# Altium footprint library IBB.PcbLib: 58 footprints (part 3 of 4)
Each footprint in its own frame and in the unit in brackets; x right, y up, seen from the top. Pads: shape width x height; smd on the part's side, far side on the other; paste and mask are expansions set on the pad; w line width, h text height; cw(c..) or ccw(c..) is an arc to the next point about the centre after c.
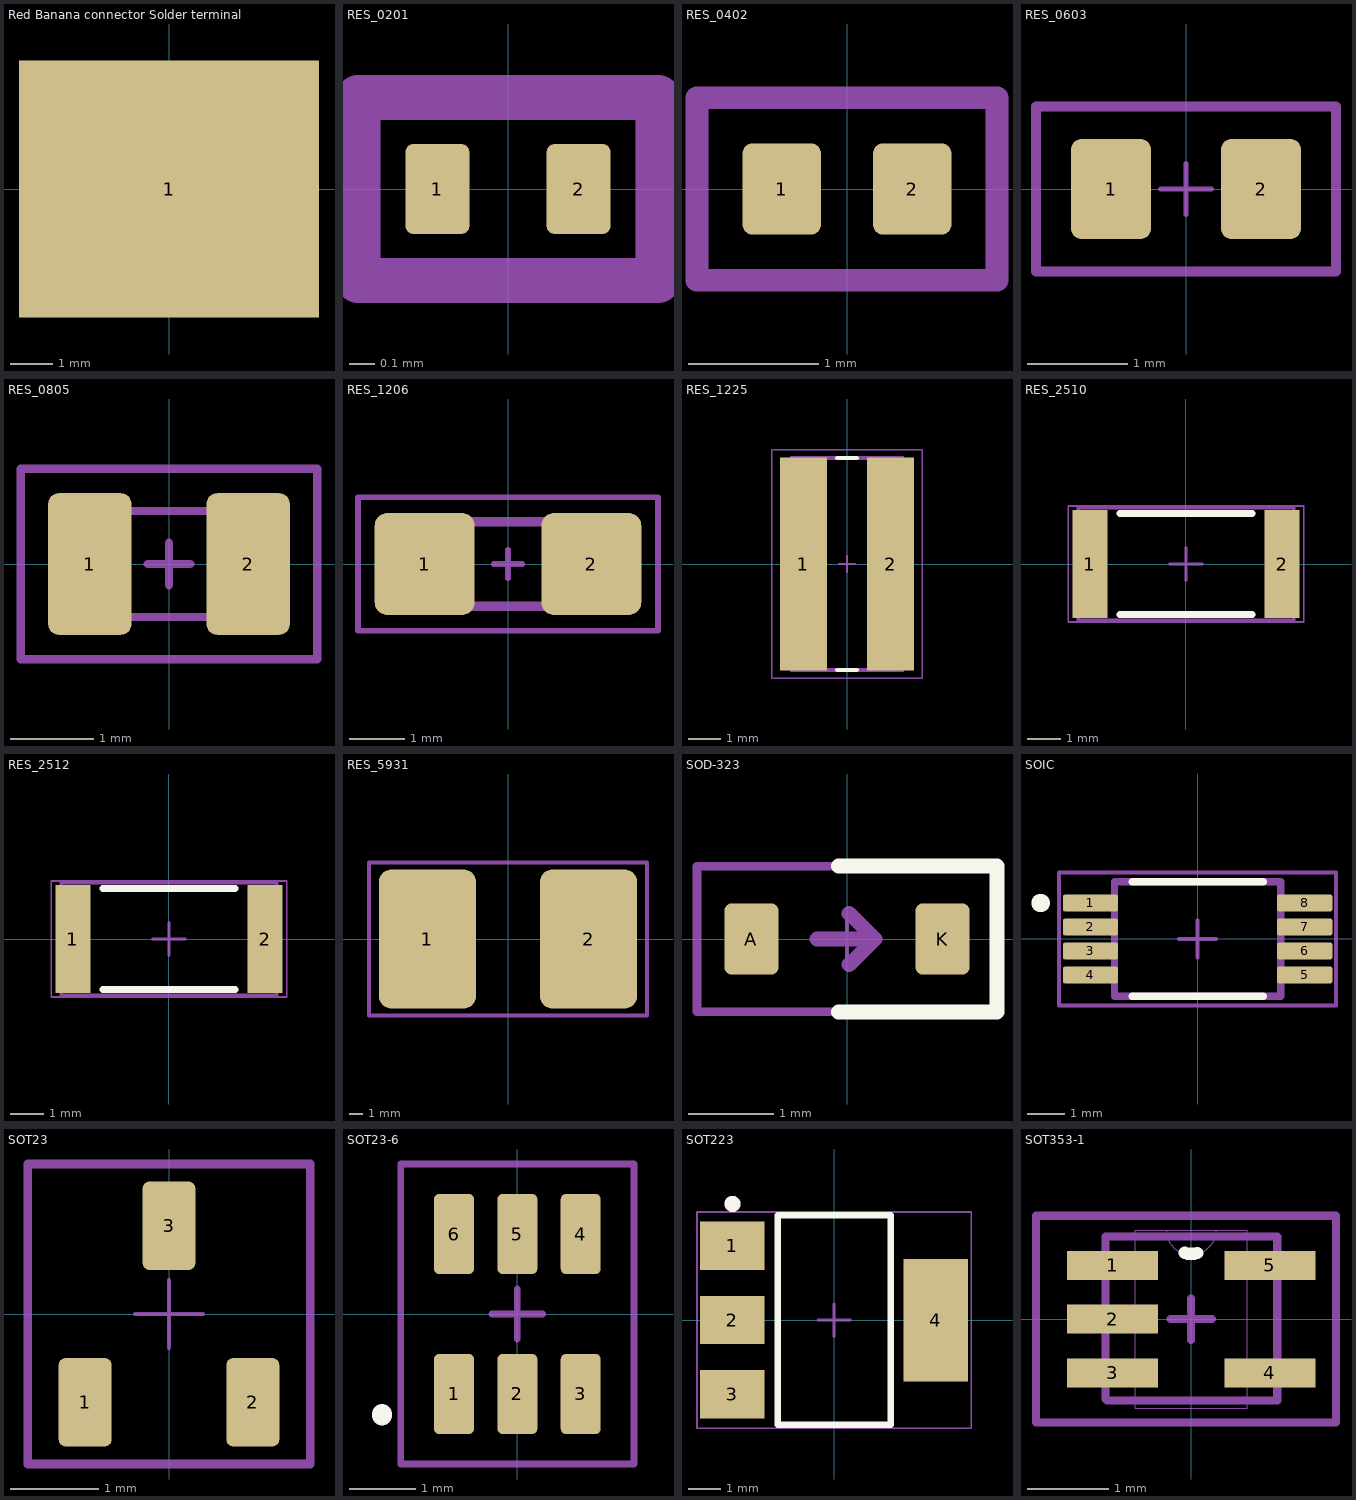
[diagram p2: the footprints below, top view; thin cyan lines are the x and y axes]

## Red Banana connector Solder terminal [mm]
pads (1):
  rect 7x6 smd: 1(0,0)

## RES_0201 [mm]
pads (2):
  rrect25% 0.25x0.35 smd mask+0.05: 1(-0.275,0) 2(0.275,0)
Mechanical 13:
  lines w0.175: -0.584,-0.356 0.584,-0.356 0.584,0.356 -0.584,0.356 -0.584,-0.356
  text "'.Designator'" at -5.665,-0.417 h1
3D body "R0201.step": height 0.15, standoff 0, extent -0.3,-0.15 0.3,0.15

## RES_0402 [mm]
pads (2):
  rrect25% 0.6x0.7 smd: 1(-0.5,0) 2(0.5,0)
Mechanical 13:
  lines w0.175: -1.15,-0.7 -1.15,0.7 1.15,0.7 1.15,-0.7 -1.15,-0.7
  text "'.Designator'" at -5.665,-0.417 h1
3D body "R0402.step": height 0.3, standoff 0, extent -0.5,-0.25 0.5,0.25

## RES_0603 [mm]
pads (2):
  rrect25% 0.8x1 smd mask+0.1: 1(-0.75,0) 2(0.75,0)
Top Component Center:
  lines w0.05: -0.254,0 0.254,0 ; 0,-0.254 0,0.254
Top Designator:
  text "'.Designator'" at -2.417,-0.226 h1
Top Component Outline:
  lines w0.1: -1.5,-0.825 -1.5,0.825 1.5,0.825 1.5,-0.825 -1.5,-0.825
3D body "R0603.step": height 0.52, standoff 0.01, extent -0.8,-0.43 0.8,0.43

## RES_0805 [mm]
pads (2):
  rrect25% 1x1.7 smd: 1(-0.95,0) 2(0.95,0)
Top Component Center:
  lines w0.1: -0.254,0 0.254,0 ; 0,-0.254 0,0.254
Top Designator:
  text "'.Designator'" at -2.417,-0.226 h1
Top Assembly:
  lines w0.1: -1.016,-0.635 -1.016,0.635 1.016,0.635 1.016,-0.635 -1.016,-0.635
Top Component Outline:
  lines w0.1: -1.778,-1.143 1.778,-1.143 1.778,1.143 -1.778,1.143 -1.778,-1.143
3D body "R0805.step": height 0.47, standoff 0.01, extent -1,-0.63 1,0.63

## RES_1206 [mm]
pads (2):
  rrect25% 1.8x1.84 smd mask+0.1: 1(-1.5,0) 2(1.5,0)
Top Component Center:
  lines w0.1: -0.254,0 0.254,0 ; 0,-0.254 0,0.254
Top Designator:
  text "'.Designator'" at -2.417,-0.226 h1
Top Assembly:
  lines w0.175: -1.651,-0.762 -1.651,0.762 1.651,0.762 1.651,-0.762 -1.651,-0.762
Top Component Outline:
  lines w0.1: -2.7,-1.2 2.7,-1.2 2.7,1.2 -2.7,1.2 -2.7,-1.2
3D body "R1206.step": height 0.57, standoff 0.01, extent -1.6,-0.83 1.6,0.83

## RES_1225 [mm]
pads (2):
  rect 1.44x6.52 smd paste+0 mask+0.102: 1(-1.34,0) 2(1.34,0)
Top Overlay:
  lines w0.127: -0.3,-3.25 0.3,-3.25 ; -0.3,3.25 0.3,3.25
Top Component Center:
  lines w0.05: -0.254,0 0.254,0 ; 0,-0.254 0,0.254
Top Designator:
  text ".Designator" at -3.434,-0.345 h1.52
Top Assembly:
  lines w0.127: -1.7,-3.25 1.7,-3.25 1.7,3.25 -1.7,3.25 -1.7,-3.25
Top Component Outline:
  lines w0.05: -2.308,-3.508 2.308,-3.508 2.308,3.508 -2.308,3.508 -2.308,-3.508
3D body "step_temp.STEP": height 0.8, standoff 0, extent -1.6,-3.15 1.6,3.15

## RES_2510 [mm]
pads (2):
  rect 1.05x3.25 smd: 1(-2.9,0) 2(2.9,0)
Top Overlay:
  lines w0.2: -2,-1.525 2,-1.525 ; -2,1.525 2,1.525
Top Component Center:
  lines w0.1: -0.5,0 0.5,0 ; 0,-0.5 0,0.5
Top Designator:
  text ".Designator" at -3.434,-0.345 h1.52
Mechanical 13:
  lines w0.1: -3.25,-1.7 -3.25,1.7 3.25,1.7 3.25,-1.7 -3.25,-1.7
Top Component Outline:
  lines w0.05: -3.55,-1.75 -3.55,1.75 3.55,1.75 3.55,-1.75 -3.55,-1.75
3D body: height 0.75, standoff 0, extent 2.63,-1.7 3.25,1.7
3D body: height 0.75, standoff 0, extent -3.25,-1.7 -2.63,1.7
3D body: height 0.75, standoff 0, extent -2.63,-1.7 2.63,1.7

## RES_2512 [mm]
pads (2):
  rect 1.05x3.25 smd: 1(-2.9,0) 2(2.9,0)
Top Overlay:
  lines w0.2: -2,-1.525 2,-1.525 ; -2,1.525 2,1.525
Top Component Center:
  lines w0.1: -0.5,0 0.5,0 ; 0,-0.5 0,0.5
Top Designator:
  text ".Designator" at -3.434,-0.345 h1.52
Mechanical 13:
  lines w0.1: -3.25,-1.7 -3.25,1.7 3.25,1.7 3.25,-1.7 -3.25,-1.7
Top Component Outline:
  lines w0.05: -3.55,-1.75 -3.55,1.75 3.55,1.75 3.55,-1.75 -3.55,-1.75
3D body: height 0.75, standoff 0, extent 2.63,-1.7 3.25,1.7
3D body: height 0.75, standoff 0, extent -3.25,-1.7 -2.63,1.7
3D body: height 0.75, standoff 0, extent -2.63,-1.7 2.63,1.7

## RES_5931 [mm]
pads (2):
  rrect25% 7x10 smd: 1(-5.8,0) 2(5.8,0)
Mechanical 13:
  lines w0.3: -10,-5.5 10,-5.5 10,5.5 -10,5.5 -10,0.5 -10,-5.5
  text "'.Designator'" at -5.815,-0.9 h1
3D body "WSLP5931.stp": height 1.92, standoff 0, extent -7.5,-3.875 7.5,3.875

## SOD-323 [mm]
pads (2):
  rrect25% 0.63x0.83 smd: A(-1.115,0) K(1.115,0)
Top Overlay:
  lines w0.175: -0.1,-0.85 1.75,-0.85 1.75,0.85 -0.1,0.85
Top Component Center:
  lines w0.05: -0.254,0 0.254,0 ; 0,-0.254 0,0.254
Top Designator:
  text "'.Designator'" at -2.417,-0.226 h1
Top Assembly:
  lines w0.175: -0.35,0 0.325,0 ; 0.025,-0.3 0.325,0 ; 0.025,0.3 0.325,0
Top Component Outline:
  lines w0.1: -1.75,-0.85 1.75,-0.85 1.75,0.85 -1.75,0.85 -1.75,-0.85
3D body "SOD-323.step": height 1.1, standoff 0, extent -1.3,-0.675 1.3,0.675

## SOIC [mm]
pads (8):
  rrect22% 1.5x0.45 smd paste+0 mask+0: 1(-2.9,0.975) 2(-2.9,0.325) 3(-2.9,-0.325) 4(-2.9,-0.975) 5(2.9,-0.975) 6(2.9,-0.325) 7(2.9,0.325) 8(2.9,0.975)
Top Overlay:
  circle w0.25: c-4.25,0.975 r0.125
  lines w0.2: -1.775,-1.55 1.775,-1.55 ; -1.775,1.55 1.775,1.55
Top 3D Body:
  lines w0.2: -2.25,-1.55 -2.25,1.55 2.25,1.55 2.25,-1.55 -2.25,-1.55
Top Component Center:
  lines w0.1: -0.5,0 0.5,0 ; 0,-0.5 0,0.5
Top Designator:
  text ".Designator" at -2.252,-0.226 h1
Top Component Outline:
  lines w0.1: -3.75,-1.8 3.75,-1.8 ; -3.75,-1.8 -3.75,1.8 ; -3.75,-1.8 3.75,-1.8 ; -3.75,-1.8 -3.75,1.8 ; -3.75,1.8 3.75,1.8 ; -3.75,1.8 3.75,1.8 ; 3.75,-1.8 3.75,1.8 ; 3.75,-1.8 3.75,1.8
3D body "IC_Texas_Instruments_INA240A1PWR_eec.STEP": height 0.25, standoff 0, extent -3.75,-1.8 3.75,1.8

## SOT23 [mm]
pads (3):
  rrect25% 0.6x1 smd: 1(-0.95,-1) 2(0.95,-1) 3(0,1)
Top Component Center:
  lines w0.05: -0.381,0 0.381,0 ; 0,-0.381 0,0.381
Top Designator:
  text "'.Designator'" at -2.417,-0.226 h1
Top Assembly:
  lines w0.1: -1.6,-1.7 -1.6,1.7 1.6,1.7 1.6,-1.7 -1.6,-1.7
Top Component Outline:
  lines w0.1: -1.6,-1.7 1.6,-1.7 1.6,1.7 -1.6,1.7 -1.6,-1.7
3D body "SOT-23F.STEP": height 0.91, standoff 0, extent -1.45,-1.2 1.45,1.2

## SOT23-6 [mm]
pads (6):
  rrect25% 0.6x1.2 smd mask+0.1: 1(-0.95,-1.2) 2(0,-1.2) 3(0.95,-1.2) 4(0.95,1.2) 5(0,1.2) 6(-0.95,1.2)
Top Overlay:
  lines w0.3: -2.032,-1.524 -2.032,-1.501
Top Component Center:
  lines w0.1: -0.381,0 0.381,0 ; 0,-0.381 0,0.381
Top Designator:
  text "'.Designator'" at -2.417,-0.226 h1
Top Assembly:
  lines w0.1: -1.75,-2.25 -1.75,0 -1.75,2.25 1.75,2.25 1.75,-2.25 -1.75,-2.25
Top Component Outline:
  lines w0.1: -1.75,-2.25 -1.75,0 -1.75,2.25 1.75,2.25 1.75,-2.25 -1.75,-2.25
3D body "SOT23-6.step": height 1.45, standoff 0, extent -1.45,-1.4 1.45,1.4

## SOT223 [mm]
pads (4):
  rect 2x1.5 smd: 1(-3.15,2.3) 2(-3.15,0) 3(-3.15,-2.3)
  rect 2x3.8 smd: 4(3.15,0)
Top Overlay:
  circle w0.25: c-3.15,3.6 r0.125
  lines w0.2: -1.75,-3.25 1.75,-3.25 1.75,3.25 -1.75,3.25 -1.75,-3.2
Top Component Center:
  lines w0.1: -0.5,0 0.5,0 ; 0,-0.5 0,0.5
Top Designator:
  text ".Designator" at -3.434,-0.345 h1.52
Mechanical 13:
  lines w0.1: -1.75,-3.25 1.75,-3.25 1.75,3.25 -1.75,3.25 -1.75,-3.25
Top Component Outline:
  lines w0.05: -4.25,-3.35 -4.25,3.35 4.25,3.35 4.25,-3.35 -4.25,-3.35
3D body: height 1.75, standoff 0.02, extent -1.75,-3.25 1.75,3.25

## SOT353-1 [mil]
pads (5):
  rect 44x14 smd mask+3.94: 1(-38,26) 2(-38,0) 3(-38,-26) 4(38,-26) 5(38,26)
Top Overlay:
  lines w6: -3.09,32.03 ccw(c0,42.13) 2.91,31.97
Top Component Center:
  lines w3.94: -10,0 10,0 ; 0,-10 0,10
Top Designator:
  text ".Designator" at -88.67,-8.9 h39.37
Top Assembly:
  lines w3.94: -41.44,-38.63 -40.72,-39.34 41.06,-39.34 41.7,-39.34 41.62,-39.26 41.62,40 -41.44,40 -41.44,-38.63
Mechanical 13:
  lines w0: -27,-31 -27,-20 ; -27,-31 -27,-43 27,-43 27,-31 ; -27,-31 -43,-31 -43,-20 -27,-20 ; -27,-20 -27,-6 ; -27,-6 -27,6 ; -27,-6 -43,-6 -43,6 -27,6 ; -27,6 -27,20 ; -27,20 -27,31 ; -27,20 -43,20 -43,31 -27,31 ; -27,31 -27,43 -12,43 ; -12,43 ccw(c0,43) 12,43 ; -12,43 12,43 ; 12,43 27,43 27,31 ; 27,-31 27,-20 ; 27,-31 43,-31 43,-20 27,-20 ; 27,-20 27,20 ; 27,20 27,31 ; 27,20 43,20 43,31 27,31
Top Component Outline:
  lines w3.94: -75,-50 -75,50 70,50 70,-50 -75,-50
3D body "step_temp.STEP": height 43.31, standoff 0, extent -41.34,-39.37 41.34,39.37